# EAGLE library part DX4R005H91R1500 (library MCU_Print_V2)
Micro USB Type B Receptacle connector, 5 contact, SMD, DX4R005H91R1500, JAE Electronics, Mouser : 656-DX4R005H91R1500
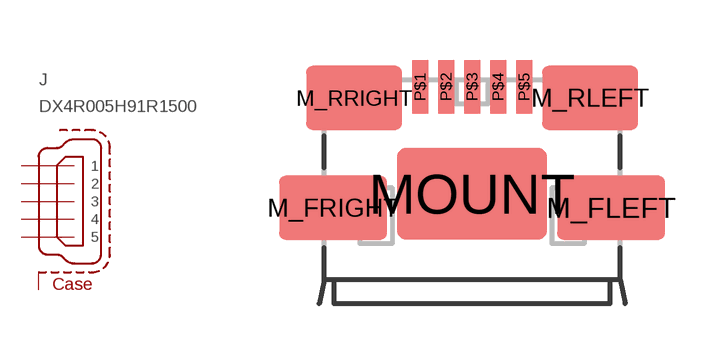
[diagram p7: symbol with the pads of MICROUSB_JAE; footprint MICROUSB_JAE]

Designator prefix J

## DX4R005H91R1500 (BRAND: JAE Electronics; CONNECTOR-TYPE: Micro USB Type B Receptacle; CONTACT-PLATING: Gold; CURRENT-RATING: 1.8 A; GENDER: Female; INSULATION-RASISTANCE: 1000 MOhms; MOUSER: 656-DX4R005H91R1500; NUMBER-OF-CONTACT: 5; NUMBER-OF-PORTS: 1; TYPE: DX4R005H91R1500)  [MICROUSB_JAE]
M_FLEFT  S1  pas
M_FRIGHT  S1  pas
M_RLEFT  S1  pas
M_RRIGHT  S1  pas
MOUNT  S1  pas
P$1  1  pas
P$2  2  pas
P$3  3  pas
P$4  4  pas
P$5  5  pas

## Footprint MICROUSB_JAE (pad centres in mm)
Micro USB Type B Receptacle, female, 5 Contact, JAE Electronics ( l x p x h => 6,9 x 5,6 x 1,85)
smd 2.7 x 1.6: M_FLEFT 3.475,2.4; M_FRIGHT -3.475,2.4
smd 2.4 x 1.6: M_RLEFT 2.95,5.15; M_RRIGHT -2.95,5.15
smd 3.75 x 2.3: MOUNT 0,2.75
smd 0.4 x 1.35: P$1 -1.3,5.425; P$2 -0.65,5.425; P$3 0,5.425; P$4 0.65,5.425; P$5 1.3,5.425